# EAGLE library part A2-50PIN (library con-apple2)
Apple ][ Peripheral Card Connector This is the, default, 50-pin connector for slot #1 to #7 Pins are laid out as seen from the top of the slot
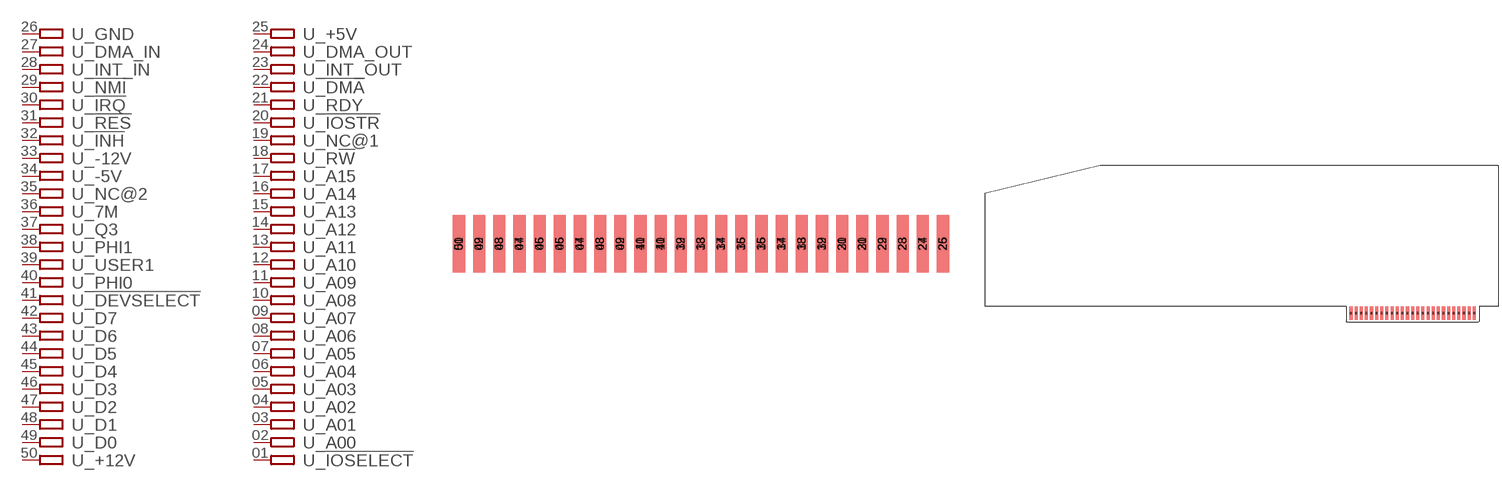
[diagram p0: symbol with the pads of A2-50PIN-SL1-3; footprints A2-50PIN-SL1-3, A2-50PIN-SL4-7]

Designator prefix -; gates _+12V=ATPIN _D0=ATPIN _D1=ATPIN _D2=ATPIN _D3=ATPIN _D4=ATPIN _D5=ATPIN _D6=ATPIN _D7=ATPIN _!DEVSELECT=ATPIN _PHI0=ATPIN _USER1=ATPIN _PHI1=ATPIN _Q3=ATPIN _7M=ATPIN _NC@2=ATPIN _-5V=ATPIN _-12V=ATPIN _!INH=ATPIN _!RES=ATPIN _!IRQ=ATPIN _!NMI=ATPIN _INT_IN=ATPIN _DMA_IN=ATPIN _GND=ATPIN _!IOSELECT=ATPIN _A00=ATPIN _A01=ATPIN _A02=ATPIN _A03=ATPIN _A04=ATPIN _A05=ATPIN _A06=ATPIN _A07=ATPIN _A08=ATPIN _A09=ATPIN _A10=ATPIN _A11=ATPIN _A12=ATPIN _A13=ATPIN _A14=ATPIN _A15=ATPIN _R!W=ATPIN _NC@1=ATPIN _!IOSTR=ATPIN _RDY=ATPIN _!DMA=ATPIN _INT_OUT=ATPIN _DMA_OUT=ATPIN _+5V=ATPIN

## A2-50PINSLOT1-3  [A2-50PIN-SL1-3]
01  _!IOSELECT:P
02  _A00:P
03  _A01:P
04  _A02:P
05  _A03:P
06  _A04:P
07  _A05:P
08  _A06:P
09  _A07:P
10  _A08:P
11  _A09:P
12  _A10:P
13  _A11:P
14  _A12:P
15  _A13:P
16  _A14:P
17  _A15:P
18  _R!W:P
19  _NC@1:P
20  _!IOSTR:P
21  _RDY:P
22  _!DMA:P
23  _INT_OUT:P
24  _DMA_OUT:P
25  _+5V:P
26  _GND:P
27  _DMA_IN:P
28  _INT_IN:P
29  _!NMI:P
30  _!IRQ:P
31  _!RES:P
32  _!INH:P
33  _-12V:P
34  _-5V:P
35  _NC@2:P
36  _7M:P
37  _Q3:P
38  _PHI1:P
39  _USER1:P
40  _PHI0:P
41  _!DEVSELECT:P
42  _D7:P
43  _D6:P
44  _D5:P
45  _D4:P
46  _D3:P
47  _D2:P
48  _D1:P
49  _D0:P
50  _+12V:P

## A2-50PINSLOT4-7  [A2-50PIN-SL4-7]
Pads as for A2-50PIN-SL1-3

## Footprint A2-50PIN-SL1-3 (pad centres in mm)
Apple ][ Peripheral Card Standard 50-pin edge connector for Apple ][ systems Dimensions for slot #1 to #3 Dimensions taken from Tech Note #28
smd 1.524 x 7.239: 01 -73.025,4.064; 02 -70.485,4.064; 03 -67.945,4.064; 04 -65.405,4.064; 05 -62.865,4.064; 06 -60.325,4.064; 07 -57.785,4.064; 08 -55.245,4.064; 09 -52.705,4.064; 10 -50.165,4.064; 11 -47.625,4.064; 12 -45.085,4.064; 13 -42.545,4.064; 14 -40.005,4.064; 15 -37.465,4.064; 16 -34.925,4.064; 17 -32.385,4.064; 18 -29.845,4.064; 19 -27.305,4.064; 20 -24.765,4.064; 21 -22.225,4.064; 22 -19.685,4.064; 23 -17.145,4.064; 24 -14.605,4.064; 25 -12.065,4.064
smd 1.524 x 7.239 bottom: 26 -12.065,4.064; 27 -14.605,4.064; 28 -17.145,4.064; 29 -19.685,4.064; 30 -22.225,4.064; 31 -24.765,4.064; 32 -27.305,4.064; 33 -29.845,4.064; 34 -32.385,4.064; 35 -34.925,4.064; 36 -37.465,4.064; 37 -40.005,4.064; 38 -42.545,4.064; 39 -45.085,4.064; 40 -47.625,4.064; 41 -50.165,4.064; 42 -52.705,4.064; 43 -55.245,4.064; 44 -57.785,4.064; 45 -60.325,4.064; 46 -62.865,4.064; 47 -65.405,4.064; 48 -67.945,4.064; 49 -70.485,4.064; 50 -73.025,4.064

## Footprint A2-50PIN-SL4-7 (pad centres in mm)
Apple ][ Peripheral Card Standard 50-pin edge connector for Apple ][ systems Dimensions for slot #4 to #7 Dimensions taken from Tech Note #28
smd 1.524 x 6.477: 01 -73.025,4.445; 02 -70.485,4.445; 03 -67.945,4.445; 04 -65.405,4.445; 05 -62.865,4.445; 06 -60.325,4.445; 07 -57.785,4.445; 08 -55.245,4.445; 09 -52.705,4.445; 10 -50.165,4.445; 11 -47.625,4.445; 12 -45.085,4.445; 13 -42.545,4.445; 14 -40.005,4.445; 15 -37.465,4.445; 16 -34.925,4.445; 17 -32.385,4.445; 18 -29.845,4.445; 19 -27.305,4.445; 20 -24.765,4.445; 21 -22.225,4.445; 22 -19.685,4.445; 23 -17.145,4.445; 24 -14.605,4.445; 25 -12.065,4.445
smd 1.524 x 6.477 bottom: 26 -12.065,4.445; 27 -14.605,4.445; 28 -17.145,4.445; 29 -19.685,4.445; 30 -22.225,4.445; 31 -24.765,4.445; 32 -27.305,4.445; 33 -29.845,4.445; 34 -32.385,4.445; 35 -34.925,4.445; 36 -37.465,4.445; 37 -40.005,4.445; 38 -42.545,4.445; 39 -45.085,4.445; 40 -47.625,4.445; 41 -50.165,4.445; 42 -52.705,4.445; 43 -55.245,4.445; 44 -57.785,4.445; 45 -60.325,4.445; 46 -62.865,4.445; 47 -65.405,4.445; 48 -67.945,4.445; 49 -70.485,4.445; 50 -73.025,4.445